# Altium integrated library ARM - ST - STM32.IntLib: 1 symbol
Pins are listed as number, name and electrical type; pins without a type are passive.

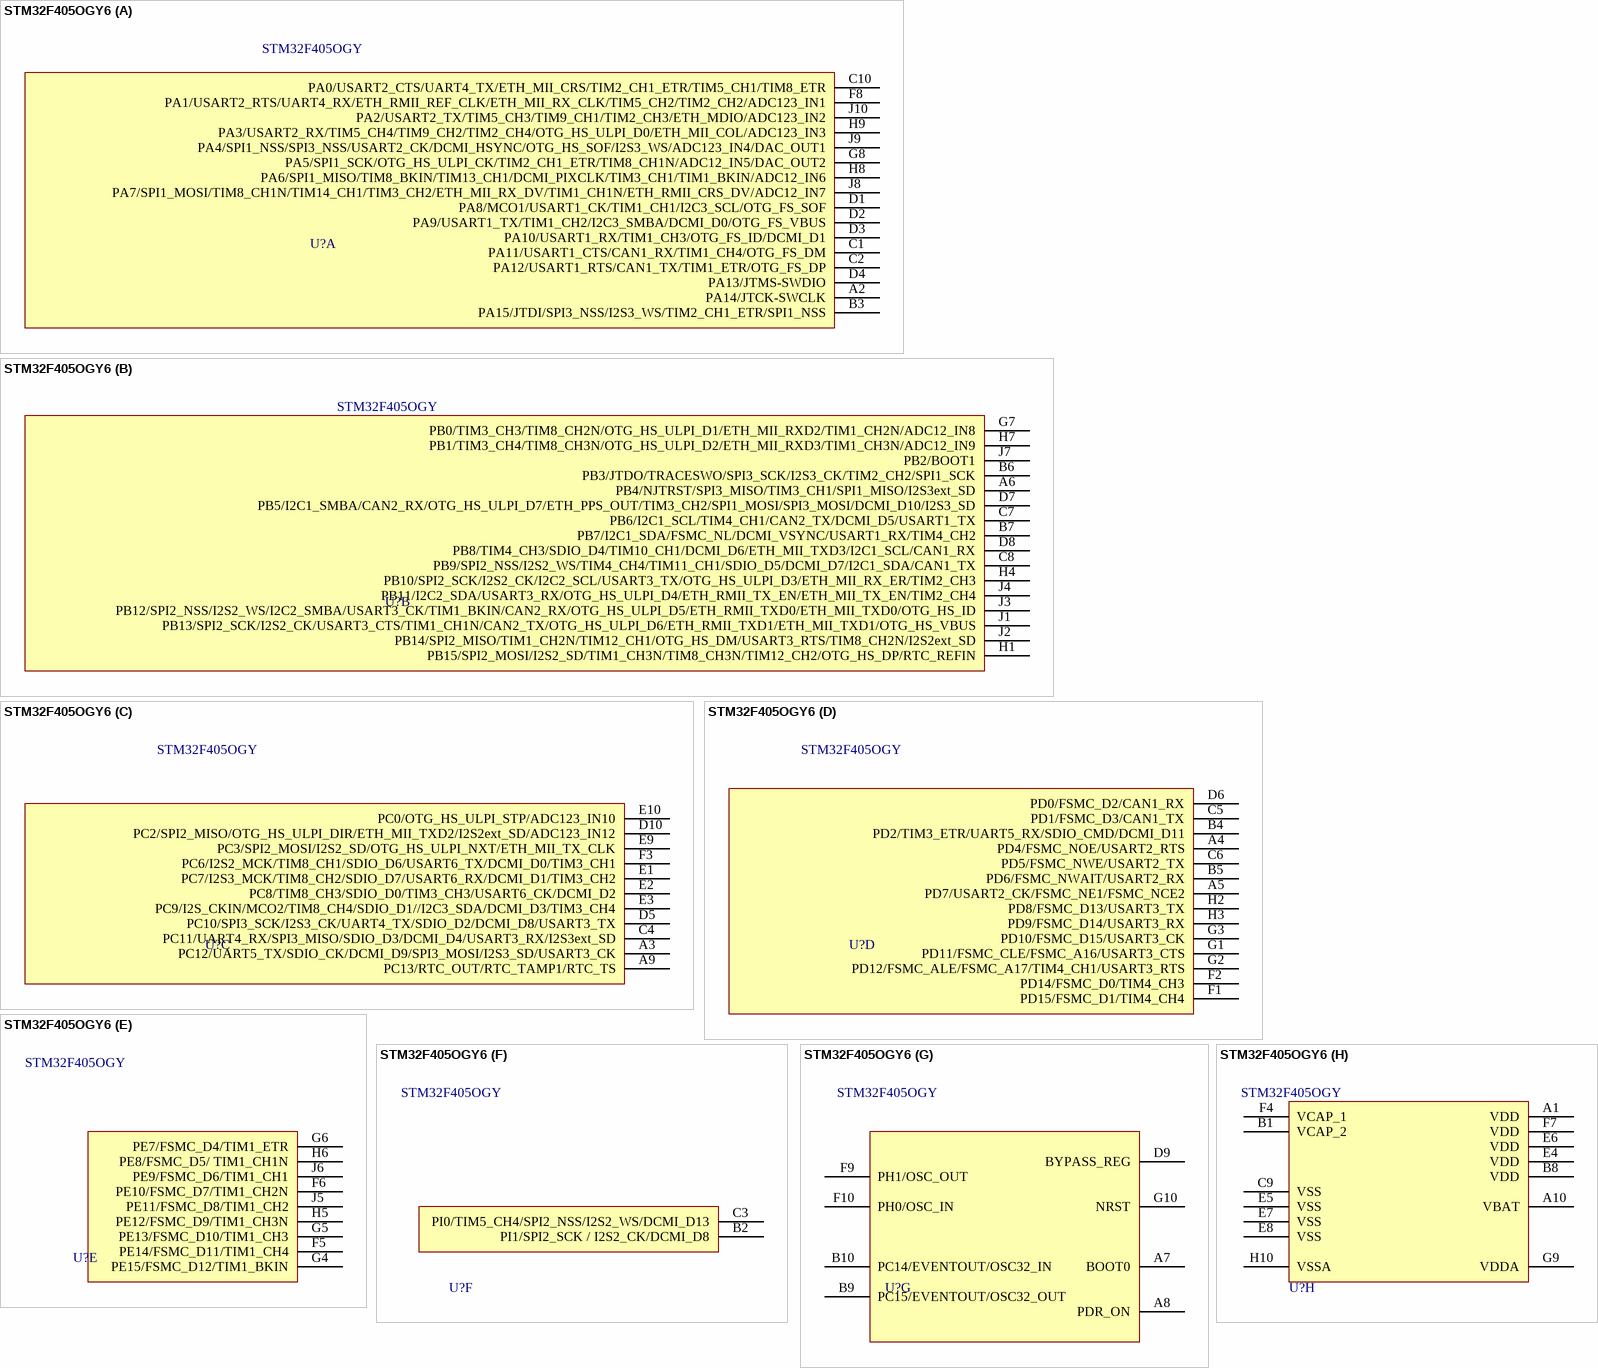
[diagram p0: symbol STM32F405OGY6]

## STM32F405OGY6
designator U?, comment STM32F405OGY
ARM® Cortex®-M4 series Microcontroller IC 32-Bit 168MHz 1MB (1M x 8) FLASH 90-WLCSP (4.22x3.97); Manufacturer: STMicroelectronics; Core: ARM Cortex-M4; FLASH Size (Prog) (kB): 1024; I/Os (High Current): 72; Internal RAM Size (kB): 192; Operating Frequency(F) (Processor speed) (MHz): 168; Supplier 1: Digi-Key; Supplier 2: Newark; Part Number: STM32F405OGY; ComponentLink1Description: Manufacturer URL; ComponentLink1URL: https://www.st.com/content/st_com/en/products/microcontrollers-microprocessors/stm32-32-bit-arm-cortex-mcus/stm32-high-performance-mcus/stm32f4-series/stm32f405-415/stm32f405og.html; Supplier Part Number 1: 497-17431-1-ND; Supplier Part Number 2: 66W7295
footprint STM-WLCSP90 (BGA, 90-Leads, Body 3.97x4.22mm, Pitch 0.4mm)
part A pins: A2 PA14/JTCK-SWCLK, B3 PA15/JTDI/SPI3_NSS/I2S3_WS/TIM2_CH1_ETR/SPI1_NSS, C1 PA11/USART1_CTS/CAN1_RX/TIM1_CH4/OTG_FS_DM, C2 PA12/USART1_RTS/CAN1_TX/TIM1_ETR/OTG_FS_DP, C10 PA0/USART2_CTS/UART4_TX/ETH_MII_CRS/TIM2_CH1_ETR/TIM5_CH1/TIM8_ETR, D1 PA8/MCO1/USART1_CK/TIM1_CH1/I2C3_SCL/OTG_FS_SOF, D2 PA9/USART1_TX/TIM1_CH2/I2C3_SMBA/DCMI_D0/OTG_FS_VBUS, D3 PA10/USART1_RX/TIM1_CH3/OTG_FS_ID/DCMI_D1, D4 PA13/JTMS-SWDIO, F8 PA1/USART2_RTS/UART4_RX/ETH_RMII_REF_CLK/ETH_MII_RX_CLK/TIM5_CH2/TIM2_CH2/ADC123_IN1, G8 PA5/SPI1_SCK/OTG_HS_ULPI_CK/TIM2_CH1_ETR/TIM8_CH1N/ADC12_IN5/DAC_OUT2, H8 PA6/SPI1_MISO/TIM8_BKIN/TIM13_CH1/DCMI_PIXCLK/TIM3_CH1/TIM1_BKIN/ADC12_IN6, H9 PA3/USART2_RX/TIM5_CH4/TIM9_CH2/TIM2_CH4/OTG_HS_ULPI_D0/ETH_MII_COL/ADC123_IN3, J8 PA7/SPI1_MOSI/TIM8_CH1N/TIM14_CH1/TIM3_CH2/ETH_MII_RX_DV/TIM1_CH1N/ETH_RMII_CRS_DV/ADC12_IN7, J9 PA4/SPI1_NSS/SPI3_NSS/USART2_CK/DCMI_HSYNC/OTG_HS_SOF/I2S3_WS/ADC123_IN4/DAC_OUT1, J10 PA2/USART2_TX/TIM5_CH3/TIM9_CH1/TIM2_CH3/ETH_MDIO/ADC123_IN2
part B pins: A6 PB4/NJTRST/SPI3_MISO/TIM3_CH1/SPI1_MISO/I2S3ext_SD, B6 PB3/JTDO/TRACESWO/SPI3_SCK/I2S3_CK/TIM2_CH2/SPI1_SCK, B7 PB7/I2C1_SDA/FSMC_NL/DCMI_VSYNC/USART1_RX/TIM4_CH2, C7 PB6/I2C1_SCL/TIM4_CH1/CAN2_TX/DCMI_D5/USART1_TX, C8 PB9/SPI2_NSS/I2S2_WS/TIM4_CH4/TIM11_CH1/SDIO_D5/DCMI_D7/I2C1_SDA/CAN1_TX, D7 PB5/I2C1_SMBA/CAN2_RX/OTG_HS_ULPI_D7/ETH_PPS_OUT/TIM3_CH2/SPI1_MOSI/SPI3_MOSI/DCMI_D10/I2S3_SD, D8 PB8/TIM4_CH3/SDIO_D4/TIM10_CH1/DCMI_D6/ETH_MII_TXD3/I2C1_SCL/CAN1_RX, G7 PB0/TIM3_CH3/TIM8_CH2N/OTG_HS_ULPI_D1/ETH_MII_RXD2/TIM1_CH2N/ADC12_IN8, H1 PB15/SPI2_MOSI/I2S2_SD/TIM1_CH3N/TIM8_CH3N/TIM12_CH2/OTG_HS_DP/RTC_REFIN, H4 PB10/SPI2_SCK/I2S2_CK/I2C2_SCL/USART3_TX/OTG_HS_ULPI_D3/ETH_MII_RX_ER/TIM2_CH3, H7 PB1/TIM3_CH4/TIM8_CH3N/OTG_HS_ULPI_D2/ETH_MII_RXD3/TIM1_CH3N/ADC12_IN9, J1 PB13/SPI2_SCK/I2S2_CK/USART3_CTS/TIM1_CH1N/CAN2_TX/OTG_HS_ULPI_D6/ETH_RMII_TXD1/ETH_MII_TXD1/OTG_HS_VBUS, J2 PB14/SPI2_MISO/TIM1_CH2N/TIM12_CH1/OTG_HS_DM/USART3_RTS/TIM8_CH2N/I2S2ext_SD, J3 PB12/SPI2_NSS/I2S2_WS/I2C2_SMBA/USART3_CK/TIM1_BKIN/CAN2_RX/OTG_HS_ULPI_D5/ETH_RMII_TXD0/ETH_MII_TXD0/OTG_HS_ID, J4 PB11/I2C2_SDA/USART3_RX/OTG_HS_ULPI_D4/ETH_RMII_TX_EN/ETH_MII_TX_EN/TIM2_CH4, J7 PB2/BOOT1
part C pins: A3 PC12/UART5_TX/SDIO_CK/DCMI_D9/SPI3_MOSI/I2S3_SD/USART3_CK, A9 PC13/RTC_OUT/RTC_TAMP1/RTC_TS, C4 PC11/UART4_RX/SPI3_MISO/SDIO_D3/DCMI_D4/USART3_RX/I2S3ext_SD, D5 PC10/SPI3_SCK/I2S3_CK/UART4_TX/SDIO_D2/DCMI_D8/USART3_TX, D10 PC2/SPI2_MISO/OTG_HS_ULPI_DIR/ETH_MII_TXD2/I2S2ext_SD/ADC123_IN12, E1 PC7/I2S3_MCK/TIM8_CH2/SDIO_D7/USART6_RX/DCMI_D1/TIM3_CH2, E2 PC8/TIM8_CH3/SDIO_D0/TIM3_CH3/USART6_CK/DCMI_D2, E3 PC9/I2S_CKIN/MCO2/TIM8_CH4/SDIO_D1//I2C3_SDA/DCMI_D3/TIM3_CH4, E9 PC3/SPI2_MOSI/I2S2_SD/OTG_HS_ULPI_NXT/ETH_MII_TX_CLK, E10 PC0/OTG_HS_ULPI_STP/ADC123_IN10, F3 PC6/I2S2_MCK/TIM8_CH1/SDIO_D6/USART6_TX/DCMI_D0/TIM3_CH1
part D pins: A4 PD4/FSMC_NOE/USART2_RTS, A5 PD7/USART2_CK/FSMC_NE1/FSMC_NCE2, B4 PD2/TIM3_ETR/UART5_RX/SDIO_CMD/DCMI_D11, B5 PD6/FSMC_NWAIT/USART2_RX, C5 PD1/FSMC_D3/CAN1_TX, C6 PD5/FSMC_NWE/USART2_TX, D6 PD0/FSMC_D2/CAN1_RX, F1 PD15/FSMC_D1/TIM4_CH4, F2 PD14/FSMC_D0/TIM4_CH3, G1 PD11/FSMC_CLE/FSMC_A16/USART3_CTS, G2 PD12/FSMC_ALE/FSMC_A17/TIM4_CH1/USART3_RTS, G3 PD10/FSMC_D15/USART3_CK, H2 PD8/FSMC_D13/USART3_TX, H3 PD9/FSMC_D14/USART3_RX
part E pins: F5 PE14/FSMC_D11/TIM1_CH4, F6 PE10/FSMC_D7/TIM1_CH2N, G4 PE15/FSMC_D12/TIM1_BKIN, G5 PE13/FSMC_D10/TIM1_CH3, G6 PE7/FSMC_D4/TIM1_ETR, H5 PE12/FSMC_D9/TIM1_CH3N, H6 PE8/FSMC_D5/ TIM1_CH1N, J5 PE11/FSMC_D8/TIM1_CH2, J6 PE9/FSMC_D6/TIM1_CH1
part F pins: B2 PI1/SPI2_SCK / I2S2_CK/DCMI_D8, C3 PI0/TIM5_CH4/SPI2_NSS/I2S2_WS/DCMI_D13
part G pins: A7 BOOT0, A8 PDR_ON, B9 PC15/EVENTOUT/OSC32_OUT, B10 PC14/EVENTOUT/OSC32_IN, D9 BYPASS_REG, F9 PH1/OSC_OUT, F10 PH0/OSC_IN, G10 NRST
part H pins: A1 VDD, A10 VBAT, B1 VCAP_2, B8 VDD, C9 VSS, E4 VDD, E5 VSS, E6 VDD, E7 VSS, E8 VSS, F4 VCAP_1, F7 VDD, G9 VDDA, H10 VSSA
1 alternate drawing of the same symbol